# Altium integrated library Linear Technology Power Management Switching Regulator LT1074-LT8705.IntLib: 2252 symbols (part 103 of 148)
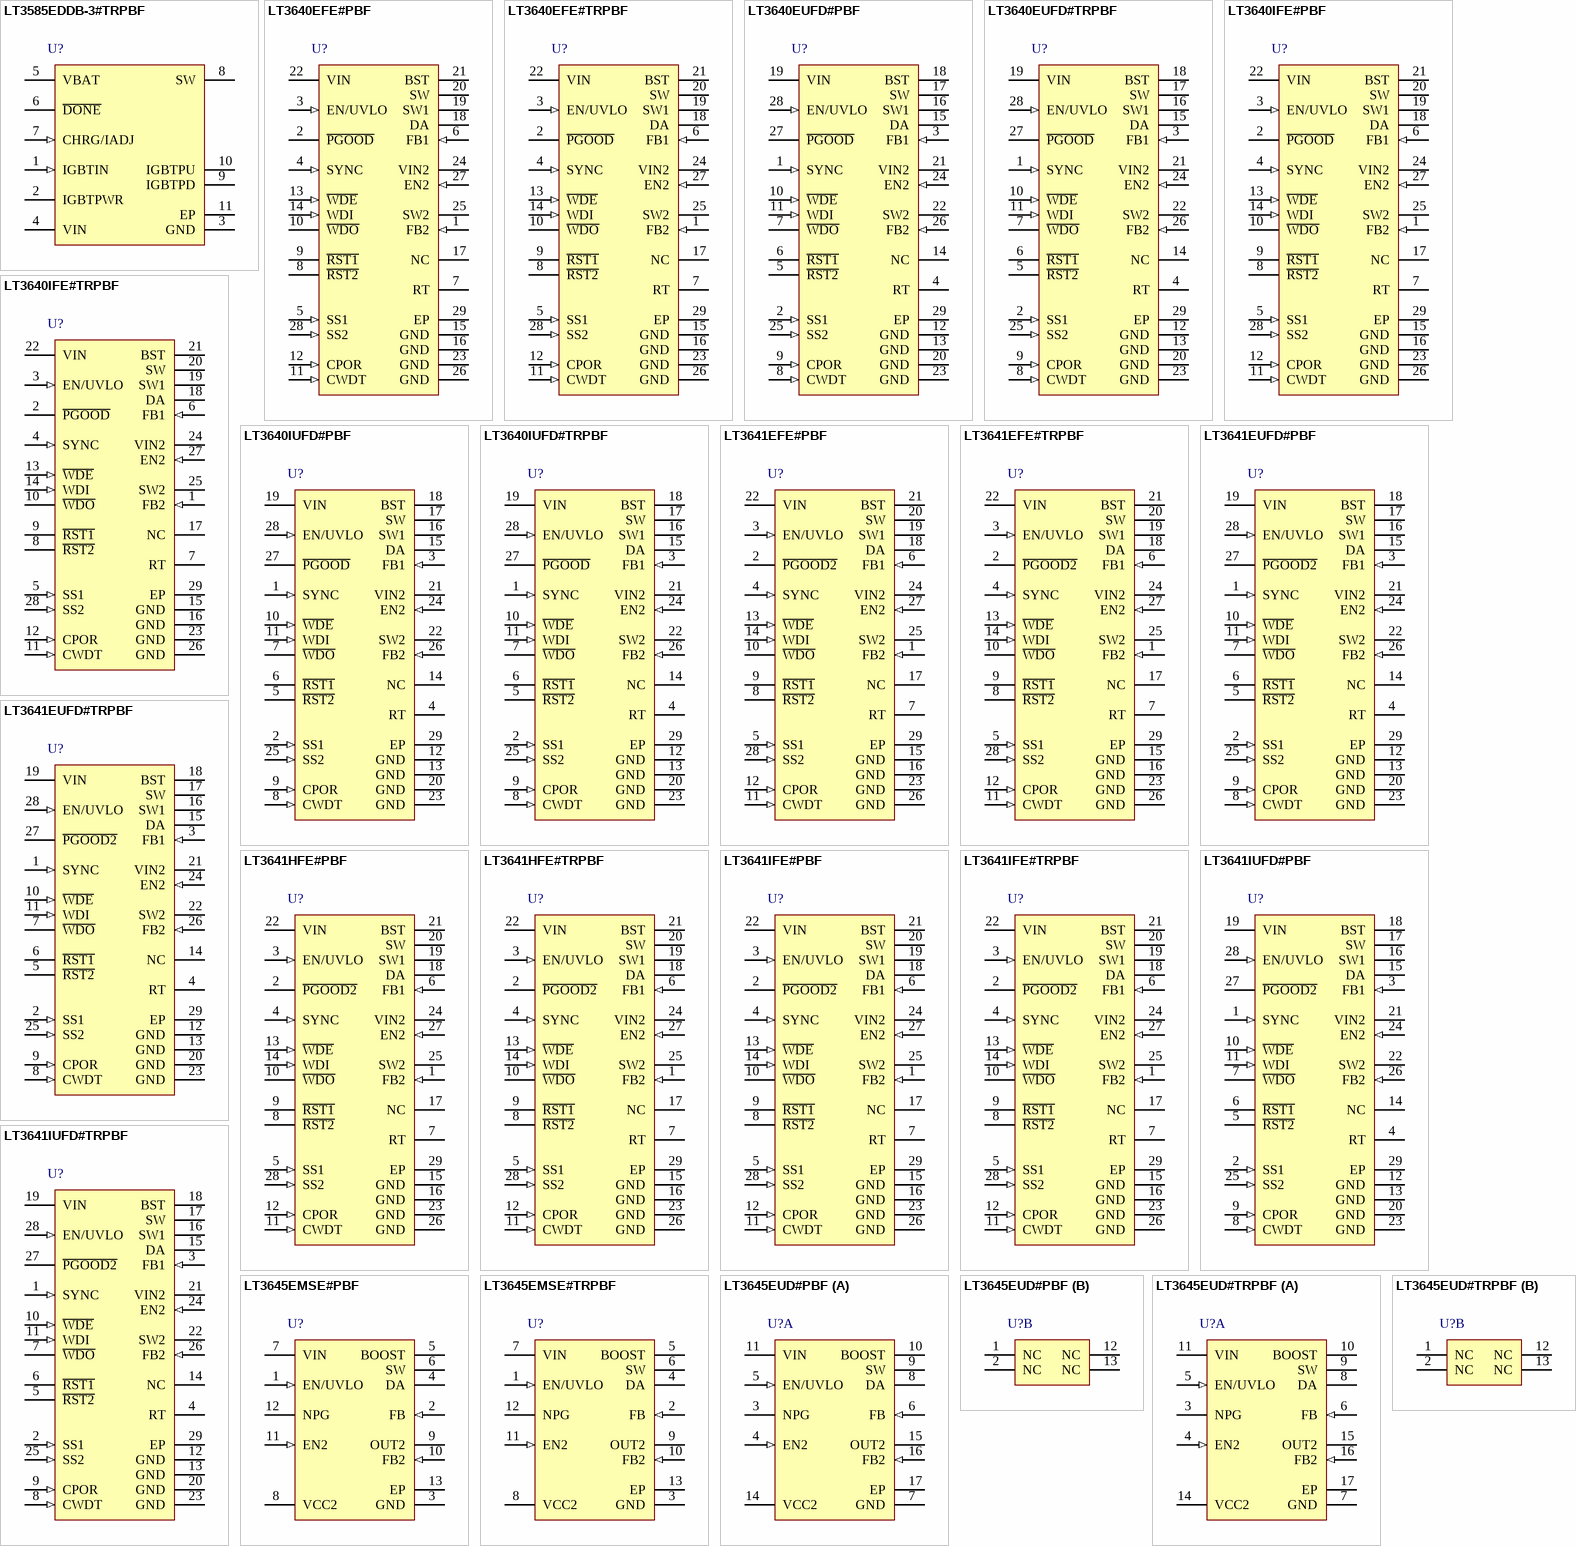
[diagram p173: symbols LT3585EDDB-3#TRPBF to LT3645EUD#TRPBF]

## LT3641IFE#TRPBF
designator U?
Dual Monolithic Buck Regulator with Power on Reset and Watchdog Timer, 28-pin SOP (FE-28-EPV-EB), -40 to 125 degC, Pb-Free, Tape and Reel; Manufacturer: Linear Technology; PartNumber: LT3641IFE#TRPBF; Frequency Adjust Range: 350kHz - 2.5MHz; Number of Outputs: 2; Over Voltage Protection(V): 55; DatasheetVersion: Rev. A; PackageVersion: Rev. J, 11/2012; PackageReference: FE-28; PackageDescription: 28-Pin Plastic TSSOP, Body 9.7 x 4.4 mm, Pitch 0.65 mm; Supplier 1: Digi-Key; Supplier Part Number 1: LT3641IFE#TRPBF-ND; Packing: Tape and Reel; RoHS: TRUE; Mounting Technology: Surface Mount; ComponentLink1Description: Manufacturer URL; ComponentLink1URL: http://www.linear.com/; ComponentLink2Description: Datasheet; ComponentLink2URL: http://cds.linear.com/docs/en/datasheet/3641fa.pdf; ComponentLink3Description: Package Specification; ComponentLink3URL: http://cds.linear.com/docs/en/packaging/05081663__J_FE28(EB).pdf
footprint LT-FE-28-EPV-EB_N (SOP, 28-Leads, Body 9.8x4.5mm, Pitch 0.65mm, Thermal Pad 4.75x2.74mm, IPC Medium Density)
footprint LT-FE-28-EPV-EB_L (SOP, 28-Leads, Body 9.8x4.5mm, Pitch 0.65mm, Thermal Pad 4.75x2.74mm, IPC High Density)
footprint LT-FE-28-EPV-EB_M (SOP, 28-Leads, Body 9.8x4.5mm, Pitch 0.65mm, Thermal Pad 4.75x2.74mm, IPC Low Density)
pins: 1 FB2 (in) "The low voltage converter regulates the FB2 pin to 600mV. Connect the feedback resistor divider tap to this pin to set output voltage.", 2 ~{PGOOD2} (oc) "Open-drain logic output that starts to sink current when FB2 is in regulation.", 3 EN/UVLO (in) "Pull this pin below 0.3V to shut down the LT3641. The 1.26V threshold can function as an accurate undervoltage lockout, preventing the LT3641 from operating until VIN voltage has reached the programmed level.", 4 SYNC (in) "Driving the SYNC pin with an external clock signal synchronizes both converters to the applied frequency. The lowest external clock frequency should be 20% higher than the internal oscillator frequency.", 5 SS1 (in) "The SS1 pin sets the FB1 voltage externally between 0V and 1.265V, providing soft-start and tracking. Tie this pin 1.5V or higher to use the internal 1.265V reference. A capacitor to ground at this pin sets the ramp time to (See Datasheet)", 6 FB1 (in) "The high voltage converter regulates the FB1 pin to 1.265V. Connect the feedback resistor divider tap to this pin to set output voltage.", 7 RT "Oscillator Resistor Input. Connecting a resistor to ground from this pin sets the internal oscillator frequency.", 8 ~{RST2} (oc) "Open-drain logic output that remains asserted for the period set by the CPOR pin capacitor after FB2 goes above 550mV.", 9 ~{RST1} (oc) "Open-drain logic output that remains asserted for the period set by the CPOR pin capacitor after FB1 goes above 1.165V.", 10 ~{WDO} (oc) "Open-drain logic output that remains asserted for the period set by the CPOR pin capacitor if W\D\E\ is enabled and WDI pin is not driven by an appropriate signal.", 11 CWDT (in) "Connect a capacitor to ground at this pin to set watchdog timer.", 12 CPOR (in) "Connect a capacitor to ground at this pin to set the power-on reset timer and W\D\O\ output timer.", 13 ~{WDE} (in) "Watchdog Enable Pin.", 14 WDI (in) "The WDI pin receives watchdog signals from a microprocessor.", 15 GND (power) "Ground. These pins must be soldered to PCB ground.", 16 GND (power) "Ground. These pins must be soldered to PCB ground.", 17 NC "Not Connected. This pin can be connected to ground.", 18 DA "The DA pin is used to sense the catch diode current for current limit and protection. Connect this pin to catch diode anode.", 19 SW1 (power) "Output of the High Voltage Internal Power Switch. Connect this pin to the inductor and catch diode cathode.", 20 SW "The SW pin is used to charge the boost capacitor. Connect this pin to the boost capacitor", 21 BST "The BST pin is used to provide a drive voltage, higher than VIN pin voltage, to the high voltage channel internal power switch. Connect an external boost diode to this pin.", 22 VIN (power) "The VIN pin supplies current to the LT3641’s internal circuitry and to the high voltage channel internal power switch. This pin must be locally bypassed.", 23 GND (power) "Ground. These pins must be soldered to PCB ground.", 24 VIN2 (power) "The VIN2 pin supplies current to the internal power MOSFET of the low voltage converter and to the LT3641’s internal circuitry when VIN2 is above 3V.", 25 SW2 (power) "Switch Node of the Low Voltage Converter. Connect this pin to an inductor.", 26 GND (power) "Ground. These pins must be soldered to PCB ground.", 27 EN2 (in) "Low Voltage Converter Enable Pin. The enable threshold is 100mV below FB1 target voltage. The disable threshold has 50mV hysteresis. The accurate threshold can function as an accurate undervoltage lockout.", 28 SS2 (in) "The SS2 pin sets the FB2 voltage externally between 0V and 0.6V, providing soft-start and tracking. Tie this pin 0.8V or higher to use the internal 0.6V reference. A capacitor to ground at this pin sets the ramp time to (See Datasheet)", 29 EP (power) "Ground. These pins must be soldered to PCB ground."

## LT3641IUFD#PBF
designator U?
Dual Monolithic Buck Regulator with Power on Reset and Watchdog Timer, 28-pin QFN (UFD-28), -40 to 125 degC, Pb-Free; Manufacturer: Linear Technology; PartNumber: LT3641IUFD#PBF; Frequency Adjust Range: 350kHz - 2.5MHz; Number of Outputs: 2; Over Voltage Protection(V): 55; DatasheetVersion: Rev. A; PackageVersion: Rev. B, 06/2010; PackageReference: UFD-28; PackageDescription: 28-Pin Plastic QFN, Body 5 x 4 mm, Pitch 0.5 mm; Supplier 1: Digi-Key; Supplier Part Number 1: LT3641IUFD#PBF-ND; RoHS: TRUE; Mounting Technology: Surface Mount; Code_JEDEC: MO-220; ComponentLink1Description: Manufacturer URL; ComponentLink1URL: http://www.linear.com/; ComponentLink2Description: Datasheet; ComponentLink2URL: http://cds.linear.com/docs/en/datasheet/3641fa.pdf; ComponentLink3Description: Package Specification; ComponentLink3URL: http://cds.linear.com/docs/en/packaging/QFN_28_05-08-1712.pdf
footprint LT-UFD-28_N (QFN, 28-Leads, Body 5.1x4.1mm, Pitch 0.5mm, Thermal Pad 3.65x2.65mm, IPC Medium Density)
footprint LT-UFD-28_L (QFN, 28-Leads, Body 5.1x4.1mm, Pitch 0.5mm, Thermal Pad 3.65x2.65mm, IPC High Density)
footprint LT-UFD-28_M (QFN, 28-Leads, Body 5.1x4.1mm, Pitch 0.5mm, Thermal Pad 3.65x2.65mm, IPC Low Density)
pins: 1 SYNC (in) "Driving the SYNC pin with an external clock signal synchronizes both converters to the applied frequency. The lowest external clock frequency should be 20% higher than the internal oscillator frequency.", 2 SS1 (in) "The SS1 pin sets the FB1 voltage externally between 0V and 1.265V, providing soft-start and tracking. Tie this pin 1.5V or higher to use the internal 1.265V reference. A capacitor to ground at this pin sets the ramp time to (See Datasheet)", 3 FB1 (in) "The high voltage converter regulates the FB1 pin to 1.265V. Connect the feedback resistor divider tap to this pin to set output voltage.", 4 RT "Oscillator Resistor Input. Connecting a resistor to ground from this pin sets the internal oscillator frequency.", 5 ~{RST2} (oc) "Open-drain logic output that remains asserted for the period set by the CPOR pin capacitor after FB2 goes above 550mV.", 6 ~{RST1} (oc) "Open-drain logic output that remains asserted for the period set by the CPOR pin capacitor after FB1 goes above 1.165V.", 7 ~{WDO} (oc) "Open-drain logic output that remains asserted for the period set by the CPOR pin capacitor if W\D\E\ is enabled and WDI pin is not driven by an appropriate signal.", 8 CWDT (in) "Connect a capacitor to ground at this pin to set watchdog timer.", 9 CPOR (in) "Connect a capacitor to ground at this pin to set the power-on reset timer and W\D\O\ output timer.", 10 ~{WDE} (in) "Watchdog Enable Pin.", 11 WDI (in) "The WDI pin receives watchdog signals from a microprocessor.", 12 GND (power) "Ground. These pins must be soldered to PCB ground.", 13 GND (power) "Ground. These pins must be soldered to PCB ground.", 14 NC "Not Connected. This pin can be connected to ground.", 15 DA "The DA pin is used to sense the catch diode current for current limit and protection. Connect this pin to catch diode anode.", 16 SW1 (power) "Output of the High Voltage Internal Power Switch. Connect this pin to the inductor and catch diode cathode.", 17 SW "The SW pin is used to charge the boost capacitor. Connect this pin to the boost capacitor", 18 BST (power) "The BST pin is used to provide a drive voltage, higher than VIN pin voltage, to the high voltage channel internal power switch. Connect an external boost diode to this pin.", 19 VIN (power) "The VIN pin supplies current to the LT3641’s internal circuitry and to the high voltage channel internal power switch. This pin must be locally bypassed.", 20 GND (power) "Ground. These pins must be soldered to PCB ground.", 21 VIN2 (power) "The VIN2 pin supplies current to the internal power MOSFET of the low voltage converter and to the LT3641’s internal circuitry when VIN2 is above 3V.", 22 SW2 (power) "Switch Node of the Low Voltage Converter. Connect this pin to an inductor.", 23 GND (power) "Ground. These pins must be soldered to PCB ground.", 24 EN2 (in) "Low Voltage Converter Enable Pin. The enable threshold is 100mV below FB1 target voltage. The disable threshold has 50mV hysteresis. The accurate threshold can function as an accurate undervoltage lockout.", 25 SS2 (in) "The SS2 pin sets the FB2 voltage externally between 0V and 0.6V, providing soft-start and tracking. Tie this pin 0.8V or higher to use the internal 0.6V reference. A capacitor to ground at this pin sets the ramp time to (See Datasheet)", 26 FB2 (in) "The low voltage converter regulates the FB2 pin to 600mV. Connect the feedback resistor divider tap to this pin to set output voltage.", 27 ~{PGOOD2} (oc) "Open-drain logic output that starts to sink current when FB2 is in regulation.", 28 EN/UVLO (in) "Pull this pin below 0.3V to shut down the LT3641. The 1.26V threshold can function as an accurate undervoltage lockout, preventing the LT3641 from operating until VIN voltage has reached the programmed level.", 29 EP (power) "Ground. These pins must be soldered to PCB ground."

## LT3641IUFD#TRPBF
designator U?
Dual Monolithic Buck Regulator with Power on Reset and Watchdog Timer, 28-pin QFN (UFD-28), -40 to 125 degC, Pb-Free, Tape and Reel; Manufacturer: Linear Technology; PartNumber: LT3641IUFD#TRPBF; Frequency Adjust Range: 350kHz - 2.5MHz; Number of Outputs: 2; Over Voltage Protection(V): 55; DatasheetVersion: Rev. A; PackageVersion: Rev. B, 06/2010; PackageReference: UFD-28; PackageDescription: 28-Pin Plastic QFN, Body 5 x 4 mm, Pitch 0.5 mm; Supplier 1: Digi-Key; Supplier Part Number 1: LT3641IUFD#TRPBF-ND; Packing: Tape and Reel; RoHS: TRUE; Mounting Technology: Surface Mount; Code_JEDEC: MO-220; ComponentLink1Description: Manufacturer URL; ComponentLink1URL: http://www.linear.com/; ComponentLink2Description: Datasheet; ComponentLink2URL: http://cds.linear.com/docs/en/datasheet/3641fa.pdf; ComponentLink3Description: Package Specification; ComponentLink3URL: http://cds.linear.com/docs/en/packaging/QFN_28_05-08-1712.pdf
footprint LT-UFD-28_N (QFN, 28-Leads, Body 5.1x4.1mm, Pitch 0.5mm, Thermal Pad 3.65x2.65mm, IPC Medium Density)
footprint LT-UFD-28_L (QFN, 28-Leads, Body 5.1x4.1mm, Pitch 0.5mm, Thermal Pad 3.65x2.65mm, IPC High Density)
footprint LT-UFD-28_M (QFN, 28-Leads, Body 5.1x4.1mm, Pitch 0.5mm, Thermal Pad 3.65x2.65mm, IPC Low Density)
pins: 1 SYNC (in) "Driving the SYNC pin with an external clock signal synchronizes both converters to the applied frequency. The lowest external clock frequency should be 20% higher than the internal oscillator frequency.", 2 SS1 (in) "The SS1 pin sets the FB1 voltage externally between 0V and 1.265V, providing soft-start and tracking. Tie this pin 1.5V or higher to use the internal 1.265V reference. A capacitor to ground at this pin sets the ramp time to (See Datasheet)", 3 FB1 (in) "The high voltage converter regulates the FB1 pin to 1.265V. Connect the feedback resistor divider tap to this pin to set output voltage.", 4 RT "Oscillator Resistor Input. Connecting a resistor to ground from this pin sets the internal oscillator frequency.", 5 ~{RST2} (oc) "Open-drain logic output that remains asserted for the period set by the CPOR pin capacitor after FB2 goes above 550mV.", 6 ~{RST1} (oc) "Open-drain logic output that remains asserted for the period set by the CPOR pin capacitor after FB1 goes above 1.165V.", 7 ~{WDO} (oc) "Open-drain logic output that remains asserted for the period set by the CPOR pin capacitor if W\D\E\ is enabled and WDI pin is not driven by an appropriate signal.", 8 CWDT (in) "Connect a capacitor to ground at this pin to set watchdog timer.", 9 CPOR (in) "Connect a capacitor to ground at this pin to set the power-on reset timer and W\D\O\ output timer.", 10 ~{WDE} (in) "Watchdog Enable Pin.", 11 WDI (in) "The WDI pin receives watchdog signals from a microprocessor.", 12 GND (power) "Ground. These pins must be soldered to PCB ground.", 13 GND (power) "Ground. These pins must be soldered to PCB ground.", 14 NC "Not Connected. This pin can be connected to ground.", 15 DA "The DA pin is used to sense the catch diode current for current limit and protection. Connect this pin to catch diode anode.", 16 SW1 (power) "Output of the High Voltage Internal Power Switch. Connect this pin to the inductor and catch diode cathode.", 17 SW "The SW pin is used to charge the boost capacitor. Connect this pin to the boost capacitor", 18 BST (power) "The BST pin is used to provide a drive voltage, higher than VIN pin voltage, to the high voltage channel internal power switch. Connect an external boost diode to this pin.", 19 VIN (power) "The VIN pin supplies current to the LT3641’s internal circuitry and to the high voltage channel internal power switch. This pin must be locally bypassed.", 20 GND (power) "Ground. These pins must be soldered to PCB ground.", 21 VIN2 (power) "The VIN2 pin supplies current to the internal power MOSFET of the low voltage converter and to the LT3641’s internal circuitry when VIN2 is above 3V.", 22 SW2 (power) "Switch Node of the Low Voltage Converter. Connect this pin to an inductor.", 23 GND (power) "Ground. These pins must be soldered to PCB ground.", 24 EN2 (in) "Low Voltage Converter Enable Pin. The enable threshold is 100mV below FB1 target voltage. The disable threshold has 50mV hysteresis. The accurate threshold can function as an accurate undervoltage lockout.", 25 SS2 (in) "The SS2 pin sets the FB2 voltage externally between 0V and 0.6V, providing soft-start and tracking. Tie this pin 0.8V or higher to use the internal 0.6V reference. A capacitor to ground at this pin sets the ramp time to (See Datasheet)", 26 FB2 (in) "The low voltage converter regulates the FB2 pin to 600mV. Connect the feedback resistor divider tap to this pin to set output voltage.", 27 ~{PGOOD2} (oc) "Open-drain logic output that starts to sink current when FB2 is in regulation.", 28 EN/UVLO (in) "Pull this pin below 0.3V to shut down the LT3641. The 1.26V threshold can function as an accurate undervoltage lockout, preventing the LT3641 from operating until VIN voltage has reached the programmed level.", 29 EP (power) "Ground. These pins must be soldered to PCB ground."

## LT3645EMSE#PBF
designator U?
500 mA Step-Down Regulator and 200 mA LDO, 12-pin SOP (MSE-12-EDP), -40 to 125 degC, Pb-Free; Manufacturer: Linear Technology; PartNumber: LT3645EMSE#PBF; Number of Outputs: 2; Over Voltage Protection(V): 55; PackageVersion: Rev. G, 05/2013; PackageReference: MSE-12-EDP; PackageDescription: 12-Pin Plastic MSOP, Exposed Die Pad, Body 4.039 x 3 mm, Pitch 0.65 mm; Supplier 1: Digi-Key; Supplier Part Number 1: LT3645EMSE#PBF-ND; Supplier 2: Newark; Supplier Part Number 2: 59T9408; RoHS: TRUE; Mounting Technology: Surface Mount; ComponentLink1Description: Manufacturer URL; ComponentLink1URL: http://www.linear.com/; ComponentLink2Description: Datasheet; ComponentLink2URL: http://cds.linear.com/docs/en/datasheet/3645f.pdf; ComponentLink3Description: Package Specification; ComponentLink3URL: http://cds.linear.com/docs/en/packaging/05081666_G_MSE12.pdf
footprint LT-MSE-12-EDP_N (SOP, 12-Leads, Body 4.1x3.1mm, Pitch 0.65mm, Thermal Pad 2.95x1.76mm, IPC Medium Density)
footprint LT-MSE-12-EDP_L (SOP, 12-Leads, Body 4.1x3.1mm, Pitch 0.65mm, Thermal Pad 2.95x1.76mm, IPC High Density)
footprint LT-MSE-12-EDP_M (SOP, 12-Leads, Body 4.1x3.1mm, Pitch 0.65mm, Thermal Pad 2.95x1.76mm, IPC Low Density)
pins: 1 EN/UVLO (in) "The EN/UVLO pin is used to enable the buck switching regulator and the low dropout linear regulator (LDO). An accurate threshold of 1.23V allows the user to set the undervoltage lockout point with a simple resistor divider, (See Datasheet)", 2 FB (in) "The FB pin programs the buck output voltage. The LT3645 regulates the FB pin to 0.8V. The feedback resistor divider tap should be connected to this pin.", 3 GND (power) "The GND pin should be tied to a local ground plane below the LT3645 and the circuit components. Return the feedback dividers from FB and FB2 to this pin. The exposed pad must be soldered to the PCB and electrically connected (See Datasheet)", 4 DA "The DA pin senses the external catch diode current and prevents the buck regulator from switching if the sensed current is too high. Connect the anode of the external Schottky catch diode to this pin.", 5 BOOST "The BOOST pin provides a drive voltage to the internal bipolar NPN power switch. Tie a 0.1uF capacitor between the BOOST and SW pins.", 6 SW (power) "The SW pin is the output of the internal buck power switch. Connect the inductor and the cathode of the external catch Schottky diode to this pin.", 7 VIN (power) "The VIN pin supplies current to the LT3645’s internal circuitry, to the internal buck power switch, and to the LDO. The VIN pin must be locally bypassed.", 8 VCC2 (power) "The VCC2 pin supplies current to the linear regulator’s output device. The VCC2 pin is also the anode of an internal Schottky diode used to generate the BOOST voltage. The VCC2 pin must be tied to a voltage source greate(See Datasheet)", 9 OUT2 (power) "The OUT2 pin is the output of the LDO. Connect a capacitor of at least 0.47uF from this pin to ground. See Frequency Compensation (LDO) section for more details.", 10 FB2 (in) "The FB2 pin programs the LDO output voltage. The LT3645 regulates the FB2 pin to 0.797V. The feedback resistor divider tap should be connected to this pin.", 11 EN2 (in) "The EN2 pin is used to enable the linear regulator. Pull this pin above 1.6V to enable the LDO. Pull EN2 below 0.5V to disable the LDO.", 12 NPG (hiz) "The NPG pin is an open-collector output used to indicate that both buck and LDO output voltages are in regulation. The NPG pin pulls low when FB and FB2 both exceed 720mV.", 13 EP (power) "The exposed pad must be soldered to the PCB and electrically connected to ground. Use a large ground plane and thermal vias to optimize thermal performance."

## LT3645EMSE#TRPBF
designator U?
500 mA Step-Down Regulator and 200 mA LDO, 12-pin SOP (MSE-12-EDP), -40 to 125 degC, Pb-Free, Tape and Reel; Manufacturer: Linear Technology; PartNumber: LT3645EMSE#TRPBF; Number of Outputs: 2; Over Voltage Protection(V): 55; PackageVersion: Rev. G, 05/2013; PackageReference: MSE-12-EDP; PackageDescription: 12-Pin Plastic MSOP, Exposed Die Pad, Body 4.039 x 3 mm, Pitch 0.65 mm; Supplier 1: Digi-Key; Supplier Part Number 1: LT3645EMSE#TRPBF-ND; Supplier 2: Newark; Supplier Part Number 2: 59T9409; Packing: Tape and Reel; RoHS: TRUE; Mounting Technology: Surface Mount; ComponentLink1Description: Manufacturer URL; ComponentLink1URL: http://www.linear.com/; ComponentLink2Description: Datasheet; ComponentLink2URL: http://cds.linear.com/docs/en/datasheet/3645f.pdf; ComponentLink3Description: Package Specification; ComponentLink3URL: http://cds.linear.com/docs/en/packaging/05081666_G_MSE12.pdf
footprint LT-MSE-12-EDP_N (SOP, 12-Leads, Body 4.1x3.1mm, Pitch 0.65mm, Thermal Pad 2.95x1.76mm, IPC Medium Density)
footprint LT-MSE-12-EDP_L (SOP, 12-Leads, Body 4.1x3.1mm, Pitch 0.65mm, Thermal Pad 2.95x1.76mm, IPC High Density)
footprint LT-MSE-12-EDP_M (SOP, 12-Leads, Body 4.1x3.1mm, Pitch 0.65mm, Thermal Pad 2.95x1.76mm, IPC Low Density)
pins: 1 EN/UVLO (in) "The EN/UVLO pin is used to enable the buck switching regulator and the low dropout linear regulator (LDO). An accurate threshold of 1.23V allows the user to set the undervoltage lockout point with a simple resistor divider, (See Datasheet)", 2 FB (in) "The FB pin programs the buck output voltage. The LT3645 regulates the FB pin to 0.8V. The feedback resistor divider tap should be connected to this pin.", 3 GND (power) "The GND pin should be tied to a local ground plane below the LT3645 and the circuit components. Return the feedback dividers from FB and FB2 to this pin. The exposed pad must be soldered to the PCB and electrically connected (See Datasheet)", 4 DA "The DA pin senses the external catch diode current and prevents the buck regulator from switching if the sensed current is too high. Connect the anode of the external Schottky catch diode to this pin.", 5 BOOST "The BOOST pin provides a drive voltage to the internal bipolar NPN power switch. Tie a 0.1uF capacitor between the BOOST and SW pins.", 6 SW (power) "The SW pin is the output of the internal buck power switch. Connect the inductor and the cathode of the external catch Schottky diode to this pin.", 7 VIN (power) "The VIN pin supplies current to the LT3645’s internal circuitry, to the internal buck power switch, and to the LDO. The VIN pin must be locally bypassed.", 8 VCC2 (power) "The VCC2 pin supplies current to the linear regulator’s output device. The VCC2 pin is also the anode of an internal Schottky diode used to generate the BOOST voltage. The VCC2 pin must be tied to a voltage source greate(See Datasheet)", 9 OUT2 (power) "The OUT2 pin is the output of the LDO. Connect a capacitor of at least 0.47uF from this pin to ground. See Frequency Compensation (LDO) section for more details.", 10 FB2 (in) "The FB2 pin programs the LDO output voltage. The LT3645 regulates the FB2 pin to 0.797V. The feedback resistor divider tap should be connected to this pin.", 11 EN2 (in) "The EN2 pin is used to enable the linear regulator. Pull this pin above 1.6V to enable the LDO. Pull EN2 below 0.5V to disable the LDO.", 12 NPG (hiz) "The NPG pin is an open-collector output used to indicate that both buck and LDO output voltages are in regulation. The NPG pin pulls low when FB and FB2 both exceed 720mV.", 13 EP (power) "The exposed pad must be soldered to the PCB and electrically connected to ground. Use a large ground plane and thermal vias to optimize thermal performance."

## LT3645EUD#PBF
designator U?
500 mA Step-Down Regulator and 200 mA LDO, 16-pin QFN (UD-16), -40 to 125 degC, Pb-Free; Manufacturer: Linear Technology; PartNumber: LT3645EUD#PBF; Number of Outputs: 2; Over Voltage Protection(V): 55; PackageVersion: Jun-10; PackageReference: UD-16; PackageDescription: 16-Pin Plastic QFN, Body 3 x 3 mm, Pitch 0.5 mm; Supplier 1: Digi-Key; Supplier Part Number 1: LT3645EUD#PBF-ND; RoHS: TRUE; Mounting Technology: Surface Mount; Code_JEDEC: MO-220; ComponentLink1Description: Manufacturer URL; ComponentLink1URL: http://www.linear.com/; ComponentLink2Description: Datasheet; ComponentLink2URL: http://cds.linear.com/docs/en/datasheet/3645f.pdf; ComponentLink3Description: Package Specification; ComponentLink3URL: http://cds.linear.com/docs/en/packaging/QFN_16_05-08-1691.pdf
footprint LT-UD-16_N (QFN, 16-Leads, Body 3x3mm, Pitch 0.5mm, Thermal Pad 1.45x1.45mm, IPC Medium Density)
footprint LT-UD-16_L (QFN, 16-Leads, Body 3x3mm, Pitch 0.5mm, Thermal Pad 1.45x1.45mm, IPC High Density)
footprint LT-UD-16_M (QFN, 16-Leads, Body 3x3mm, Pitch 0.5mm, Thermal Pad 1.45x1.45mm, IPC Low Density)
part A pins: 3 NPG (hiz) "The NPG pin is an open-collector output used to indicate that both buck and LDO output voltages are in regulation. The NPG pin pulls low when FB and FB2 both exceed 720mV.", 4 EN2 (in) "The EN2 pin is used to enable the linear regulator. Pull this pin above 1.6V to enable the LDO. Pull EN2 below 0.5V to disable the LDO.", 5 EN/UVLO (in) "The EN/UVLO pin is used to enable the buck switching regulator and the low dropout linear regulator (LDO). An accurate threshold of 1.23V allows the user to set the undervoltage lockout point with a simple resistor divider, (See Datasheet)", 6 FB (in) "The FB pin programs the buck output voltage. The LT3645 regulates the FB pin to 0.8V. The feedback resistor divider tap should be connected to this pin.", 7 GND (power) "The GND pin should be tied to a local ground plane below the LT3645 and the circuit components. Return the feedback dividers from FB and FB2 to this pin.", 8 DA "The DA pin senses the external catch diode current and prevents the buck regulator from switching if the sensed current is too high. Connect the anode of the external Schottky catch diode to this pin.", 9 SW (power) "The SW pin is the output of the internal buck power switch. Connect the inductor and the cathode of the external catch Schottky diode to this pin.", 10 BOOST "The BOOST pin provides a drive voltage to the internal bipolar NPN power switch. Tie a 0.1uF capacitor between the BOOST and SW pins.", 11 VIN (power) "The VIN pin supplies current to the LT3645’s internal circuitry, to the internal buck power switch, and to the LDO. The VIN pin must be locally bypassed.", 14 VCC2 (power) "The VCC2 pin supplies current to the linear regulator’s output device. The VCC2 pin is also the anode of an internal Schottky diode used to generate the BOOST voltage. The VCC2 pin must be tied to a voltage source greate(See Datasheet)", 15 OUT2 (power) "The OUT2 pin is the output of the LDO. Connect a capacitor of at least 0.47uF from this pin to ground. See Frequency Compensation (LDO) section for more details.", 16 FB2 (in) "The FB2 pin programs the LDO output voltage. The LT3645 regulates the FB2 pin to 0.797V. The feedback resistor divider tap should be connected to this pin.", 17 EP (power) "The GND pin should be tied to a local ground plane below the LT3645 and the circuit components. Return the feedback dividers from FB and FB2 to this pin. The exposed pad must be soldered to the PCB and electrically connected (See Datasheet)"
part B pins: 1 NC "No Connect Pins. Tie these to ground.", 2 NC "No Connect Pins. Tie these to ground.", 12 NC "No Connect Pins. Tie these to ground.", 13 NC "No Connect Pins. Tie these to ground."

## LT3645EUD#TRPBF
designator U?
500 mA Step-Down Regulator and 200 mA LDO, 16-pin QFN (UD-16), -40 to 125 degC, Pb-Free, Tape and Reel; Manufacturer: Linear Technology; PartNumber: LT3645EUD#TRPBF; Number of Outputs: 2; Over Voltage Protection(V): 55; PackageVersion: Jun-10; PackageReference: UD-16; PackageDescription: 16-Pin Plastic QFN, Body 3 x 3 mm, Pitch 0.5 mm; Supplier 1: Digi-Key; Supplier Part Number 1: LT3645EUD#TRPBF-ND; Packing: Tape and Reel; RoHS: TRUE; Mounting Technology: Surface Mount; Code_JEDEC: MO-220; ComponentLink1Description: Manufacturer URL; ComponentLink1URL: http://www.linear.com/; ComponentLink2Description: Datasheet; ComponentLink2URL: http://cds.linear.com/docs/en/datasheet/3645f.pdf; ComponentLink3Description: Package Specification; ComponentLink3URL: http://cds.linear.com/docs/en/packaging/QFN_16_05-08-1691.pdf
footprint LT-UD-16_N (QFN, 16-Leads, Body 3x3mm, Pitch 0.5mm, Thermal Pad 1.45x1.45mm, IPC Medium Density)
footprint LT-UD-16_L (QFN, 16-Leads, Body 3x3mm, Pitch 0.5mm, Thermal Pad 1.45x1.45mm, IPC High Density)
footprint LT-UD-16_M (QFN, 16-Leads, Body 3x3mm, Pitch 0.5mm, Thermal Pad 1.45x1.45mm, IPC Low Density)
part A pins: 3 NPG (hiz) "The NPG pin is an open-collector output used to indicate that both buck and LDO output voltages are in regulation. The NPG pin pulls low when FB and FB2 both exceed 720mV.", 4 EN2 (in) "The EN2 pin is used to enable the linear regulator. Pull this pin above 1.6V to enable the LDO. Pull EN2 below 0.5V to disable the LDO.", 5 EN/UVLO (in) "The EN/UVLO pin is used to enable the buck switching regulator and the low dropout linear regulator (LDO). An accurate threshold of 1.23V allows the user to set the undervoltage lockout point with a simple resistor divider, (See Datasheet)", 6 FB (in) "The FB pin programs the buck output voltage. The LT3645 regulates the FB pin to 0.8V. The feedback resistor divider tap should be connected to this pin.", 7 GND (power) "The GND pin should be tied to a local ground plane below the LT3645 and the circuit components. Return the feedback dividers from FB and FB2 to this pin.", 8 DA "The DA pin senses the external catch diode current and prevents the buck regulator from switching if the sensed current is too high. Connect the anode of the external Schottky catch diode to this pin.", 9 SW (power) "The SW pin is the output of the internal buck power switch. Connect the inductor and the cathode of the external catch Schottky diode to this pin.", 10 BOOST "The BOOST pin provides a drive voltage to the internal bipolar NPN power switch. Tie a 0.1uF capacitor between the BOOST and SW pins.", 11 VIN (power) "The VIN pin supplies current to the LT3645’s internal circuitry, to the internal buck power switch, and to the LDO. The VIN pin must be locally bypassed.", 14 VCC2 (power) "The VCC2 pin supplies current to the linear regulator’s output device. The VCC2 pin is also the anode of an internal Schottky diode used to generate the BOOST voltage. The VCC2 pin must be tied to a voltage source greate(See Datasheet)", 15 OUT2 (power) "The OUT2 pin is the output of the LDO. Connect a capacitor of at least 0.47uF from this pin to ground. See Frequency Compensation (LDO) section for more details.", 16 FB2 (in) "The FB2 pin programs the LDO output voltage. The LT3645 regulates the FB2 pin to 0.797V. The feedback resistor divider tap should be connected to this pin.", 17 EP (power) "The GND pin should be tied to a local ground plane below the LT3645 and the circuit components. Return the feedback dividers from FB and FB2 to this pin. The exposed pad must be soldered to the PCB and electrically connected (See Datasheet)"
part B pins: 1 NC "No Connect Pins. Tie these to ground.", 2 NC "No Connect Pins. Tie these to ground.", 12 NC "No Connect Pins. Tie these to ground.", 13 NC "No Connect Pins. Tie these to ground."

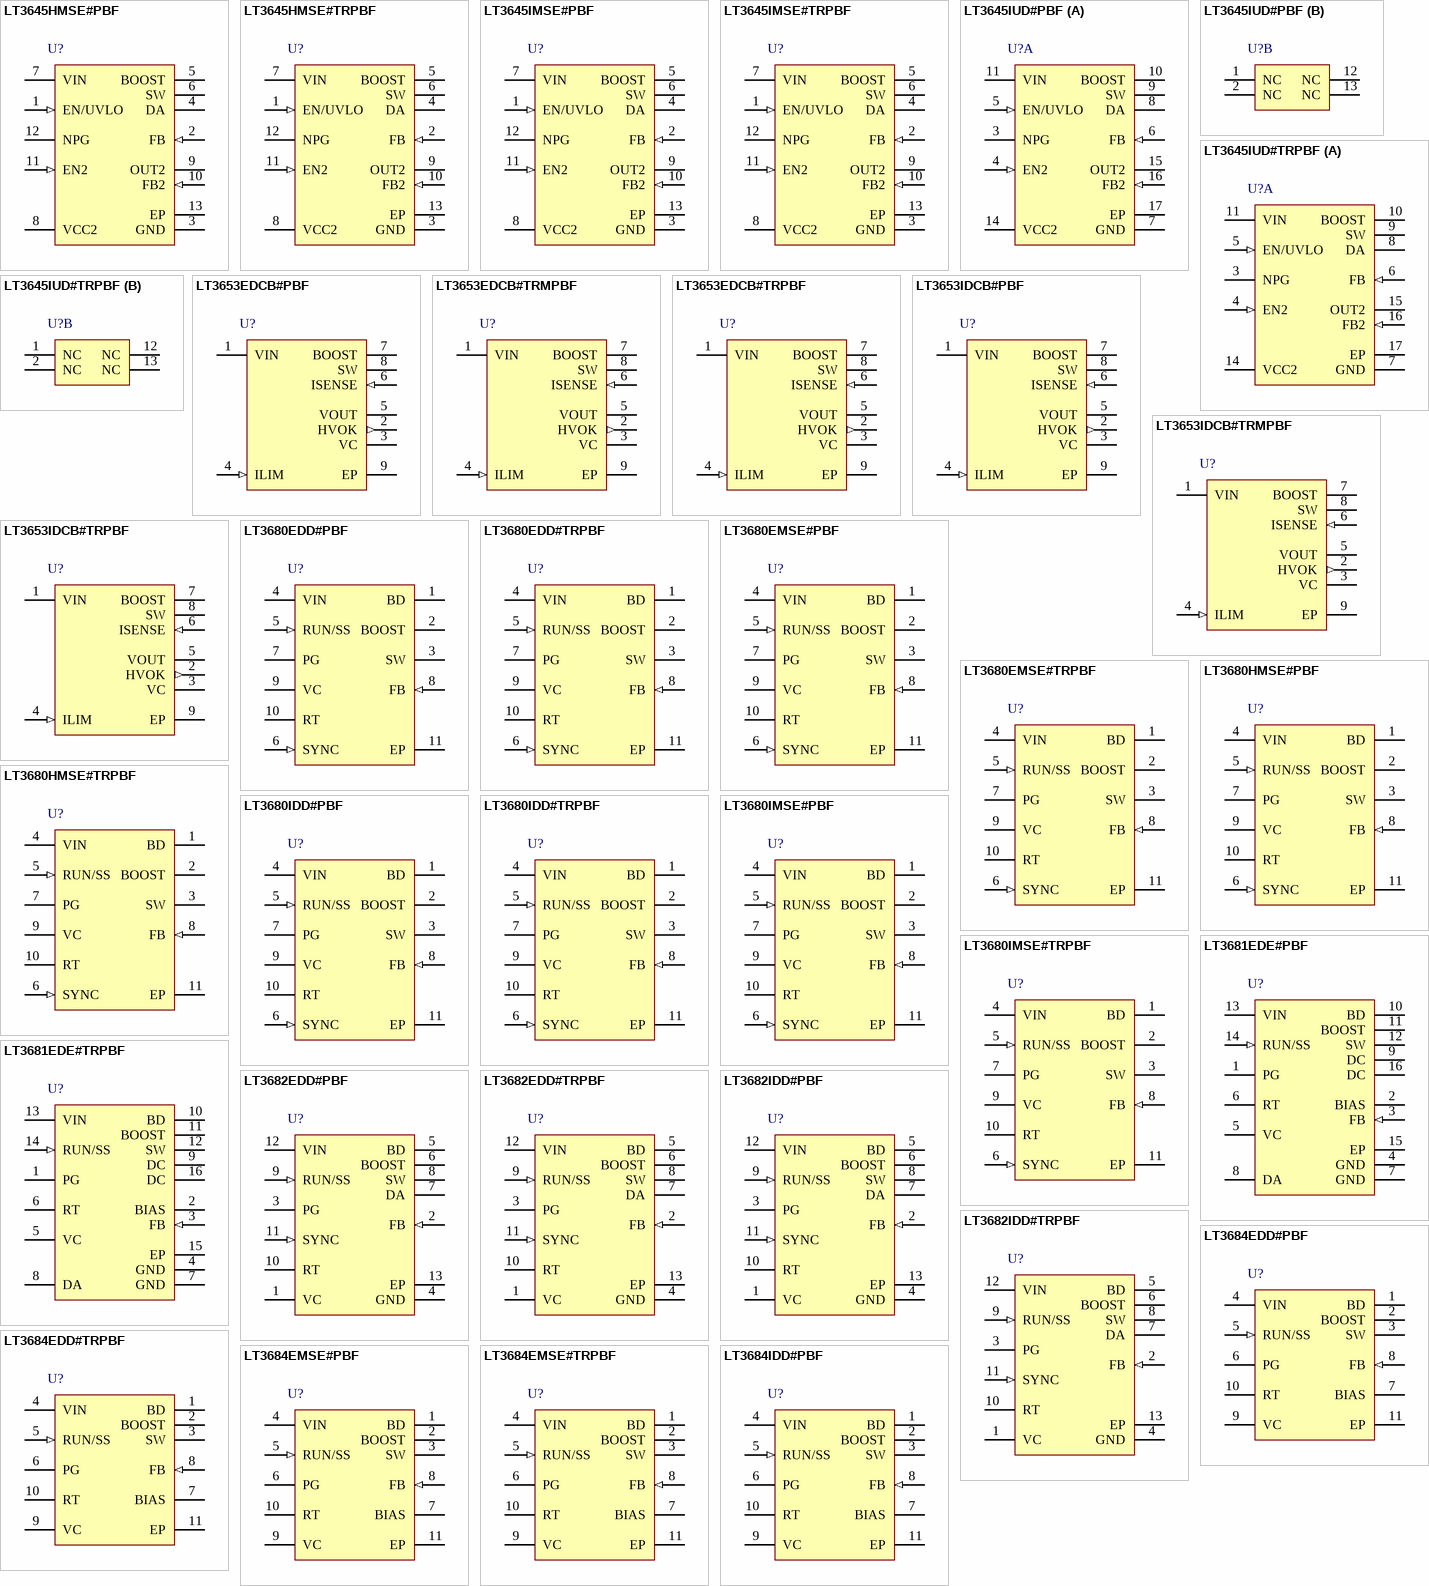
[diagram p51: symbols LT3645HMSE#PBF to LT3684IDD#PBF]

## LT3645HMSE#PBF
designator U?
500 mA Step-Down Regulator and 200 mA LDO, 12-pin SOP (MSE-12-EDP), -40 to 150 degC, Pb-Free; Manufacturer: Linear Technology; PartNumber: LT3645HMSE#PBF; Number of Outputs: 2; Over Voltage Protection(V): 55; PackageVersion: Rev. G, 05/2013; PackageReference: MSE-12-EDP; PackageDescription: 12-Pin Plastic MSOP, Exposed Die Pad, Body 4.039 x 3 mm, Pitch 0.65 mm; Supplier 1: Digi-Key; Supplier Part Number 1: LT3645HMSE#PBF-ND; Supplier 2: Newark; Supplier Part Number 2: 59T9412; RoHS: TRUE; Mounting Technology: Surface Mount; ComponentLink1Description: Manufacturer URL; ComponentLink1URL: http://www.linear.com/; ComponentLink2Description: Datasheet; ComponentLink2URL: http://cds.linear.com/docs/en/datasheet/3645f.pdf; ComponentLink3Description: Package Specification; ComponentLink3URL: http://cds.linear.com/docs/en/packaging/05081666_G_MSE12.pdf
footprint LT-MSE-12-EDP_N (SOP, 12-Leads, Body 4.1x3.1mm, Pitch 0.65mm, Thermal Pad 2.95x1.76mm, IPC Medium Density)
footprint LT-MSE-12-EDP_L (SOP, 12-Leads, Body 4.1x3.1mm, Pitch 0.65mm, Thermal Pad 2.95x1.76mm, IPC High Density)
footprint LT-MSE-12-EDP_M (SOP, 12-Leads, Body 4.1x3.1mm, Pitch 0.65mm, Thermal Pad 2.95x1.76mm, IPC Low Density)
pins: 1 EN/UVLO (in) "The EN/UVLO pin is used to enable the buck switching regulator and the low dropout linear regulator (LDO). An accurate threshold of 1.23V allows the user to set the undervoltage lockout point with a simple resistor divider, (See Datasheet)", 2 FB (in) "The FB pin programs the buck output voltage. The LT3645 regulates the FB pin to 0.8V. The feedback resistor divider tap should be connected to this pin.", 3 GND (power) "The GND pin should be tied to a local ground plane below the LT3645 and the circuit components. Return the feedback dividers from FB and FB2 to this pin. The exposed pad must be soldered to the PCB and electrically connected (See Datasheet)", 4 DA "The DA pin senses the external catch diode current and prevents the buck regulator from switching if the sensed current is too high. Connect the anode of the external Schottky catch diode to this pin.", 5 BOOST "The BOOST pin provides a drive voltage to the internal bipolar NPN power switch. Tie a 0.1uF capacitor between the BOOST and SW pins.", 6 SW (power) "The SW pin is the output of the internal buck power switch. Connect the inductor and the cathode of the external catch Schottky diode to this pin.", 7 VIN (power) "The VIN pin supplies current to the LT3645’s internal circuitry, to the internal buck power switch, and to the LDO. The VIN pin must be locally bypassed.", 8 VCC2 (power) "The VCC2 pin supplies current to the linear regulator’s output device. The VCC2 pin is also the anode of an internal Schottky diode used to generate the BOOST voltage. The VCC2 pin must be tied to a voltage source greate(See Datasheet)", 9 OUT2 (power) "The OUT2 pin is the output of the LDO. Connect a capacitor of at least 0.47uF from this pin to ground. See Frequency Compensation (LDO) section for more details.", 10 FB2 (in) "The FB2 pin programs the LDO output voltage. The LT3645 regulates the FB2 pin to 0.797V. The feedback resistor divider tap should be connected to this pin.", 11 EN2 (in) "The EN2 pin is used to enable the linear regulator. Pull this pin above 1.6V to enable the LDO. Pull EN2 below 0.5V to disable the LDO.", 12 NPG (hiz) "The NPG pin is an open-collector output used to indicate that both buck and LDO output voltages are in regulation. The NPG pin pulls low when FB and FB2 both exceed 720mV.", 13 EP (power) "The exposed pad must be soldered to the PCB and electrically connected to ground. Use a large ground plane and thermal vias to optimize thermal performance."

## LT3645HMSE#TRPBF
designator U?
500 mA Step-Down Regulator and 200 mA LDO, 12-pin SOP (MSE-12-EDP), -40 to 150 degC, Pb-Free, Tape and Reel; Manufacturer: Linear Technology; PartNumber: LT3645HMSE#TRPBF; Number of Outputs: 2; Over Voltage Protection(V): 55; PackageVersion: Rev. G, 05/2013; PackageReference: MSE-12-EDP; PackageDescription: 12-Pin Plastic MSOP, Exposed Die Pad, Body 4.039 x 3 mm, Pitch 0.65 mm; Supplier 1: Digi-Key; Supplier Part Number 1: LT3645HMSE#TRPBF-ND; Packing: Tape and Reel; RoHS: TRUE; Mounting Technology: Surface Mount; ComponentLink1Description: Manufacturer URL; ComponentLink1URL: http://www.linear.com/; ComponentLink2Description: Datasheet; ComponentLink2URL: http://cds.linear.com/docs/en/datasheet/3645f.pdf; ComponentLink3Description: Package Specification; ComponentLink3URL: http://cds.linear.com/docs/en/packaging/05081666_G_MSE12.pdf
footprint LT-MSE-12-EDP_N (SOP, 12-Leads, Body 4.1x3.1mm, Pitch 0.65mm, Thermal Pad 2.95x1.76mm, IPC Medium Density)
footprint LT-MSE-12-EDP_L (SOP, 12-Leads, Body 4.1x3.1mm, Pitch 0.65mm, Thermal Pad 2.95x1.76mm, IPC High Density)
footprint LT-MSE-12-EDP_M (SOP, 12-Leads, Body 4.1x3.1mm, Pitch 0.65mm, Thermal Pad 2.95x1.76mm, IPC Low Density)
pins: 1 EN/UVLO (in) "The EN/UVLO pin is used to enable the buck switching regulator and the low dropout linear regulator (LDO). An accurate threshold of 1.23V allows the user to set the undervoltage lockout point with a simple resistor divider, (See Datasheet)", 2 FB (in) "The FB pin programs the buck output voltage. The LT3645 regulates the FB pin to 0.8V. The feedback resistor divider tap should be connected to this pin.", 3 GND (power) "The GND pin should be tied to a local ground plane below the LT3645 and the circuit components. Return the feedback dividers from FB and FB2 to this pin. The exposed pad must be soldered to the PCB and electrically connected (See Datasheet)", 4 DA "The DA pin senses the external catch diode current and prevents the buck regulator from switching if the sensed current is too high. Connect the anode of the external Schottky catch diode to this pin.", 5 BOOST "The BOOST pin provides a drive voltage to the internal bipolar NPN power switch. Tie a 0.1uF capacitor between the BOOST and SW pins.", 6 SW (power) "The SW pin is the output of the internal buck power switch. Connect the inductor and the cathode of the external catch Schottky diode to this pin.", 7 VIN (power) "The VIN pin supplies current to the LT3645’s internal circuitry, to the internal buck power switch, and to the LDO. The VIN pin must be locally bypassed.", 8 VCC2 (power) "The VCC2 pin supplies current to the linear regulator’s output device. The VCC2 pin is also the anode of an internal Schottky diode used to generate the BOOST voltage. The VCC2 pin must be tied to a voltage source greate(See Datasheet)", 9 OUT2 (power) "The OUT2 pin is the output of the LDO. Connect a capacitor of at least 0.47uF from this pin to ground. See Frequency Compensation (LDO) section for more details.", 10 FB2 (in) "The FB2 pin programs the LDO output voltage. The LT3645 regulates the FB2 pin to 0.797V. The feedback resistor divider tap should be connected to this pin.", 11 EN2 (in) "The EN2 pin is used to enable the linear regulator. Pull this pin above 1.6V to enable the LDO. Pull EN2 below 0.5V to disable the LDO.", 12 NPG (hiz) "The NPG pin is an open-collector output used to indicate that both buck and LDO output voltages are in regulation. The NPG pin pulls low when FB and FB2 both exceed 720mV.", 13 EP (power) "The exposed pad must be soldered to the PCB and electrically connected to ground. Use a large ground plane and thermal vias to optimize thermal performance."

## LT3645IMSE#PBF
designator U?
500 mA Step-Down Regulator and 200 mA LDO, 12-pin SOP (MSE-12-EDP), -40 to 125 degC, Pb-Free; Manufacturer: Linear Technology; PartNumber: LT3645IMSE#PBF; Number of Outputs: 2; Over Voltage Protection(V): 55; PackageVersion: Rev. G, 05/2013; PackageReference: MSE-12-EDP; PackageDescription: 12-Pin Plastic MSOP, Exposed Die Pad, Body 4.039 x 3 mm, Pitch 0.65 mm; Supplier 1: Digi-Key; Supplier Part Number 1: LT3645IMSE#PBF-ND; Supplier 2: Newark; Supplier Part Number 2: 59T9414; RoHS: TRUE; Mounting Technology: Surface Mount; ComponentLink1Description: Manufacturer URL; ComponentLink1URL: http://www.linear.com/; ComponentLink2Description: Datasheet; ComponentLink2URL: http://cds.linear.com/docs/en/datasheet/3645f.pdf; ComponentLink3Description: Package Specification; ComponentLink3URL: http://cds.linear.com/docs/en/packaging/05081666_G_MSE12.pdf
footprint LT-MSE-12-EDP_N (SOP, 12-Leads, Body 4.1x3.1mm, Pitch 0.65mm, Thermal Pad 2.95x1.76mm, IPC Medium Density)
footprint LT-MSE-12-EDP_L (SOP, 12-Leads, Body 4.1x3.1mm, Pitch 0.65mm, Thermal Pad 2.95x1.76mm, IPC High Density)
footprint LT-MSE-12-EDP_M (SOP, 12-Leads, Body 4.1x3.1mm, Pitch 0.65mm, Thermal Pad 2.95x1.76mm, IPC Low Density)
pins: 1 EN/UVLO (in) "The EN/UVLO pin is used to enable the buck switching regulator and the low dropout linear regulator (LDO). An accurate threshold of 1.23V allows the user to set the undervoltage lockout point with a simple resistor divider, (See Datasheet)", 2 FB (in) "The FB pin programs the buck output voltage. The LT3645 regulates the FB pin to 0.8V. The feedback resistor divider tap should be connected to this pin.", 3 GND (power) "The GND pin should be tied to a local ground plane below the LT3645 and the circuit components. Return the feedback dividers from FB and FB2 to this pin. The exposed pad must be soldered to the PCB and electrically connected (See Datasheet)", 4 DA "The DA pin senses the external catch diode current and prevents the buck regulator from switching if the sensed current is too high. Connect the anode of the external Schottky catch diode to this pin.", 5 BOOST "The BOOST pin provides a drive voltage to the internal bipolar NPN power switch. Tie a 0.1uF capacitor between the BOOST and SW pins.", 6 SW (power) "The SW pin is the output of the internal buck power switch. Connect the inductor and the cathode of the external catch Schottky diode to this pin.", 7 VIN (power) "The VIN pin supplies current to the LT3645’s internal circuitry, to the internal buck power switch, and to the LDO. The VIN pin must be locally bypassed.", 8 VCC2 (power) "The VCC2 pin supplies current to the linear regulator’s output device. The VCC2 pin is also the anode of an internal Schottky diode used to generate the BOOST voltage. The VCC2 pin must be tied to a voltage source greate(See Datasheet)", 9 OUT2 (power) "The OUT2 pin is the output of the LDO. Connect a capacitor of at least 0.47uF from this pin to ground. See Frequency Compensation (LDO) section for more details.", 10 FB2 (in) "The FB2 pin programs the LDO output voltage. The LT3645 regulates the FB2 pin to 0.797V. The feedback resistor divider tap should be connected to this pin.", 11 EN2 (in) "The EN2 pin is used to enable the linear regulator. Pull this pin above 1.6V to enable the LDO. Pull EN2 below 0.5V to disable the LDO.", 12 NPG (hiz) "The NPG pin is an open-collector output used to indicate that both buck and LDO output voltages are in regulation. The NPG pin pulls low when FB and FB2 both exceed 720mV.", 13 EP (power) "The exposed pad must be soldered to the PCB and electrically connected to ground. Use a large ground plane and thermal vias to optimize thermal performance."

## LT3645IMSE#TRPBF
designator U?
500 mA Step-Down Regulator and 200 mA LDO, 12-pin SOP (MSE-12-EDP), -40 to 125 degC, Pb-Free, Tape and Reel; Manufacturer: Linear Technology; PartNumber: LT3645IMSE#TRPBF; Number of Outputs: 2; Over Voltage Protection(V): 55; PackageVersion: Rev. G, 05/2013; PackageReference: MSE-12-EDP; PackageDescription: 12-Pin Plastic MSOP, Exposed Die Pad, Body 4.039 x 3 mm, Pitch 0.65 mm; Supplier 1: Digi-Key; Supplier Part Number 1: LT3645IMSE#TRPBF-ND; Supplier 2: Newark; Supplier Part Number 2: 59T9415; Packing: Tape and Reel; RoHS: TRUE; Mounting Technology: Surface Mount; ComponentLink1Description: Manufacturer URL; ComponentLink1URL: http://www.linear.com/; ComponentLink2Description: Datasheet; ComponentLink2URL: http://cds.linear.com/docs/en/datasheet/3645f.pdf; ComponentLink3Description: Package Specification; ComponentLink3URL: http://cds.linear.com/docs/en/packaging/05081666_G_MSE12.pdf
footprint LT-MSE-12-EDP_N (SOP, 12-Leads, Body 4.1x3.1mm, Pitch 0.65mm, Thermal Pad 2.95x1.76mm, IPC Medium Density)
footprint LT-MSE-12-EDP_L (SOP, 12-Leads, Body 4.1x3.1mm, Pitch 0.65mm, Thermal Pad 2.95x1.76mm, IPC High Density)
footprint LT-MSE-12-EDP_M (SOP, 12-Leads, Body 4.1x3.1mm, Pitch 0.65mm, Thermal Pad 2.95x1.76mm, IPC Low Density)
pins: 1 EN/UVLO (in) "The EN/UVLO pin is used to enable the buck switching regulator and the low dropout linear regulator (LDO). An accurate threshold of 1.23V allows the user to set the undervoltage lockout point with a simple resistor divider, (See Datasheet)", 2 FB (in) "The FB pin programs the buck output voltage. The LT3645 regulates the FB pin to 0.8V. The feedback resistor divider tap should be connected to this pin.", 3 GND (power) "The GND pin should be tied to a local ground plane below the LT3645 and the circuit components. Return the feedback dividers from FB and FB2 to this pin. The exposed pad must be soldered to the PCB and electrically connected (See Datasheet)", 4 DA "The DA pin senses the external catch diode current and prevents the buck regulator from switching if the sensed current is too high. Connect the anode of the external Schottky catch diode to this pin.", 5 BOOST "The BOOST pin provides a drive voltage to the internal bipolar NPN power switch. Tie a 0.1uF capacitor between the BOOST and SW pins.", 6 SW (power) "The SW pin is the output of the internal buck power switch. Connect the inductor and the cathode of the external catch Schottky diode to this pin.", 7 VIN (power) "The VIN pin supplies current to the LT3645’s internal circuitry, to the internal buck power switch, and to the LDO. The VIN pin must be locally bypassed.", 8 VCC2 (power) "The VCC2 pin supplies current to the linear regulator’s output device. The VCC2 pin is also the anode of an internal Schottky diode used to generate the BOOST voltage. The VCC2 pin must be tied to a voltage source greate(See Datasheet)", 9 OUT2 (power) "The OUT2 pin is the output of the LDO. Connect a capacitor of at least 0.47uF from this pin to ground. See Frequency Compensation (LDO) section for more details.", 10 FB2 (in) "The FB2 pin programs the LDO output voltage. The LT3645 regulates the FB2 pin to 0.797V. The feedback resistor divider tap should be connected to this pin.", 11 EN2 (in) "The EN2 pin is used to enable the linear regulator. Pull this pin above 1.6V to enable the LDO. Pull EN2 below 0.5V to disable the LDO.", 12 NPG (hiz) "The NPG pin is an open-collector output used to indicate that both buck and LDO output voltages are in regulation. The NPG pin pulls low when FB and FB2 both exceed 720mV.", 13 EP (power) "The exposed pad must be soldered to the PCB and electrically connected to ground. Use a large ground plane and thermal vias to optimize thermal performance."

## LT3645IUD#PBF
designator U?
500 mA Step-Down Regulator and 200 mA LDO, 16-pin QFN (UD-16), -40 to 125 degC, Pb-Free; Manufacturer: Linear Technology; PartNumber: LT3645IUD#PBF; Number of Outputs: 2; Over Voltage Protection(V): 55; PackageVersion: Jun-10; PackageReference: UD-16; PackageDescription: 16-Pin Plastic QFN, Body 3 x 3 mm, Pitch 0.5 mm; Supplier 1: Digi-Key; Supplier Part Number 1: LT3645IUD#PBF-ND; RoHS: TRUE; Mounting Technology: Surface Mount; Code_JEDEC: MO-220; ComponentLink1Description: Manufacturer URL; ComponentLink1URL: http://www.linear.com/; ComponentLink2Description: Datasheet; ComponentLink2URL: http://cds.linear.com/docs/en/datasheet/3645f.pdf; ComponentLink3Description: Package Specification; ComponentLink3URL: http://cds.linear.com/docs/en/packaging/QFN_16_05-08-1691.pdf
footprint LT-UD-16_N (QFN, 16-Leads, Body 3x3mm, Pitch 0.5mm, Thermal Pad 1.45x1.45mm, IPC Medium Density)
footprint LT-UD-16_L (QFN, 16-Leads, Body 3x3mm, Pitch 0.5mm, Thermal Pad 1.45x1.45mm, IPC High Density)
footprint LT-UD-16_M (QFN, 16-Leads, Body 3x3mm, Pitch 0.5mm, Thermal Pad 1.45x1.45mm, IPC Low Density)
part A pins: 3 NPG (hiz) "The NPG pin is an open-collector output used to indicate that both buck and LDO output voltages are in regulation. The NPG pin pulls low when FB and FB2 both exceed 720mV.", 4 EN2 (in) "The EN2 pin is used to enable the linear regulator. Pull this pin above 1.6V to enable the LDO. Pull EN2 below 0.5V to disable the LDO.", 5 EN/UVLO (in) "The EN/UVLO pin is used to enable the buck switching regulator and the low dropout linear regulator (LDO). An accurate threshold of 1.23V allows the user to set the undervoltage lockout point with a simple resistor divider, (See Datasheet)", 6 FB (in) "The FB pin programs the buck output voltage. The LT3645 regulates the FB pin to 0.8V. The feedback resistor divider tap should be connected to this pin.", 7 GND (power) "The GND pin should be tied to a local ground plane below the LT3645 and the circuit components. Return the feedback dividers from FB and FB2 to this pin.", 8 DA "The DA pin senses the external catch diode current and prevents the buck regulator from switching if the sensed current is too high. Connect the anode of the external Schottky catch diode to this pin.", 9 SW (power) "The SW pin is the output of the internal buck power switch. Connect the inductor and the cathode of the external catch Schottky diode to this pin.", 10 BOOST "The BOOST pin provides a drive voltage to the internal bipolar NPN power switch. Tie a 0.1uF capacitor between the BOOST and SW pins.", 11 VIN (power) "The VIN pin supplies current to the LT3645’s internal circuitry, to the internal buck power switch, and to the LDO. The VIN pin must be locally bypassed.", 14 VCC2 (power) "The VCC2 pin supplies current to the linear regulator’s output device. The VCC2 pin is also the anode of an internal Schottky diode used to generate the BOOST voltage. The VCC2 pin must be tied to a voltage source greate(See Datasheet)", 15 OUT2 (power) "The OUT2 pin is the output of the LDO. Connect a capacitor of at least 0.47uF from this pin to ground. See Frequency Compensation (LDO) section for more details.", 16 FB2 (in) "The FB2 pin programs the LDO output voltage. The LT3645 regulates the FB2 pin to 0.797V. The feedback resistor divider tap should be connected to this pin.", 17 EP (power) "The GND pin should be tied to a local ground plane below the LT3645 and the circuit components. Return the feedback dividers from FB and FB2 to this pin. The exposed pad must be soldered to the PCB and electrically connected (See Datasheet)"
part B pins: 1 NC "No Connect Pins. Tie these to ground.", 2 NC "No Connect Pins. Tie these to ground.", 12 NC "No Connect Pins. Tie these to ground.", 13 NC "No Connect Pins. Tie these to ground."